# EAGLE library part STM8L101F3P6 (library IC_MCU)
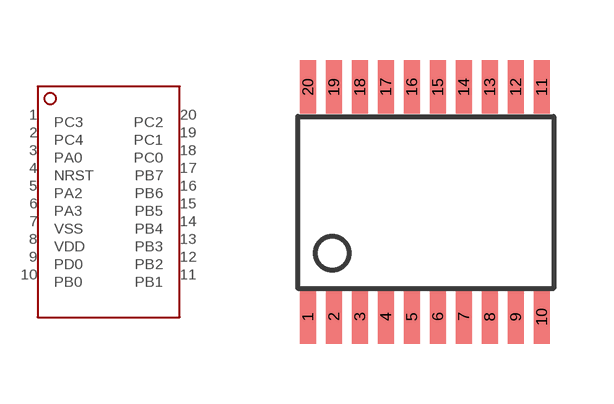
[diagram p1: symbol with the pads of TSSOP20; footprint TSSOP20]

Designator prefix -

## STM8L101F3P6  [TSSOP20]
1  PC3
2  PC4
3  PA0
4  NRST
5  PA2
6  PA3
7  VSS
8  VDD
9  PD0
10  PB0
11  PB1
12  PB2
13  PB3
14  PB4
15  PB5
16  PB6
17  PB7
18  PC0
19  PC1
20  PC2

## Footprint TSSOP20 (pad centres in mm)
smd 0.4 x 1.35: 1 0.283,-0.68; 2 0.933,-0.68; 3 1.583,-0.68; 4 2.233,-0.68; 5 2.883,-0.68; 6 3.533,-0.68; 7 4.183,-0.68; 8 4.833,-0.68; 9 5.483,-0.68; 10 6.133,-0.68; 11 6.133,5.07; 12 5.483,5.07; 13 4.833,5.07; 14 4.183,5.07; 15 3.533,5.07; 16 2.883,5.07; 17 2.233,5.07; 18 1.583,5.07; 19 0.933,5.07; 20 0.283,5.07